# EAGLE library part ESP8266-03 (library p.peter-periphery)
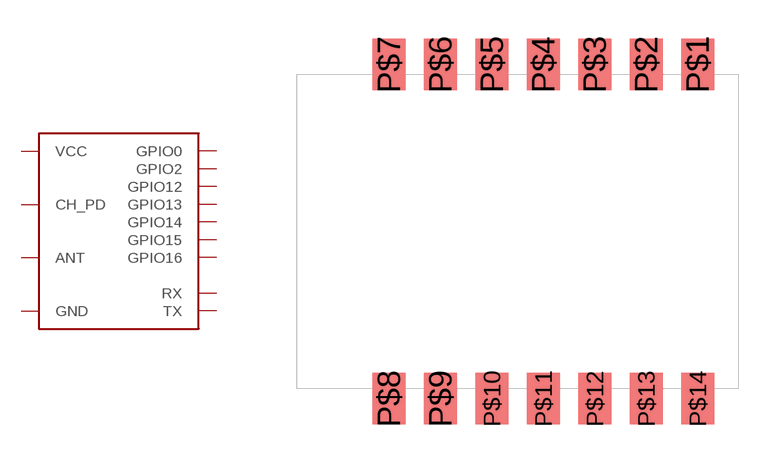
[diagram p15: symbol with the pads of ESP8266-ESP-03; footprint ESP8266-ESP-03]

Designator prefix -

## ESP8266-03  [ESP8266-ESP-03]
P$1  GND
P$3  TX
P$4  RX
P$5  GPIO16
P$6  CH_PD
P$7  ANT
P$8  VCC
P$9  GPIO14
P$10  GPIO12
P$11  GPIO13
P$12  GPIO15
P$13  GPIO2
P$14  GPIO0

## Footprint ESP8266-ESP-03 (pad centres in mm)
smd 1.27 x 2: P$1 7,6.5; P$2 5,6.5; P$3 3,6.5; P$4 1,6.5; P$5 -1,6.5; P$6 -3,6.5; P$7 -5,6.5; P$8 -5,-6.5; P$9 -3,-6.5; P$10 -1,-6.5; P$11 1,-6.5; P$12 3,-6.5; P$13 5,-6.5; P$14 7,-6.5